# Altium footprint library Gelnar.PcbLib: 295 footprints (part 1 of 19)
Each footprint in its own frame and in the unit in brackets; x right, y up, seen from the top. Pads: shape width x height; smd on the part's side, far side on the other; paste and mask are expansions set on the pad; w line width, h text height; cw(c..) or ccw(c..) is an arc to the next point about the centre after c.
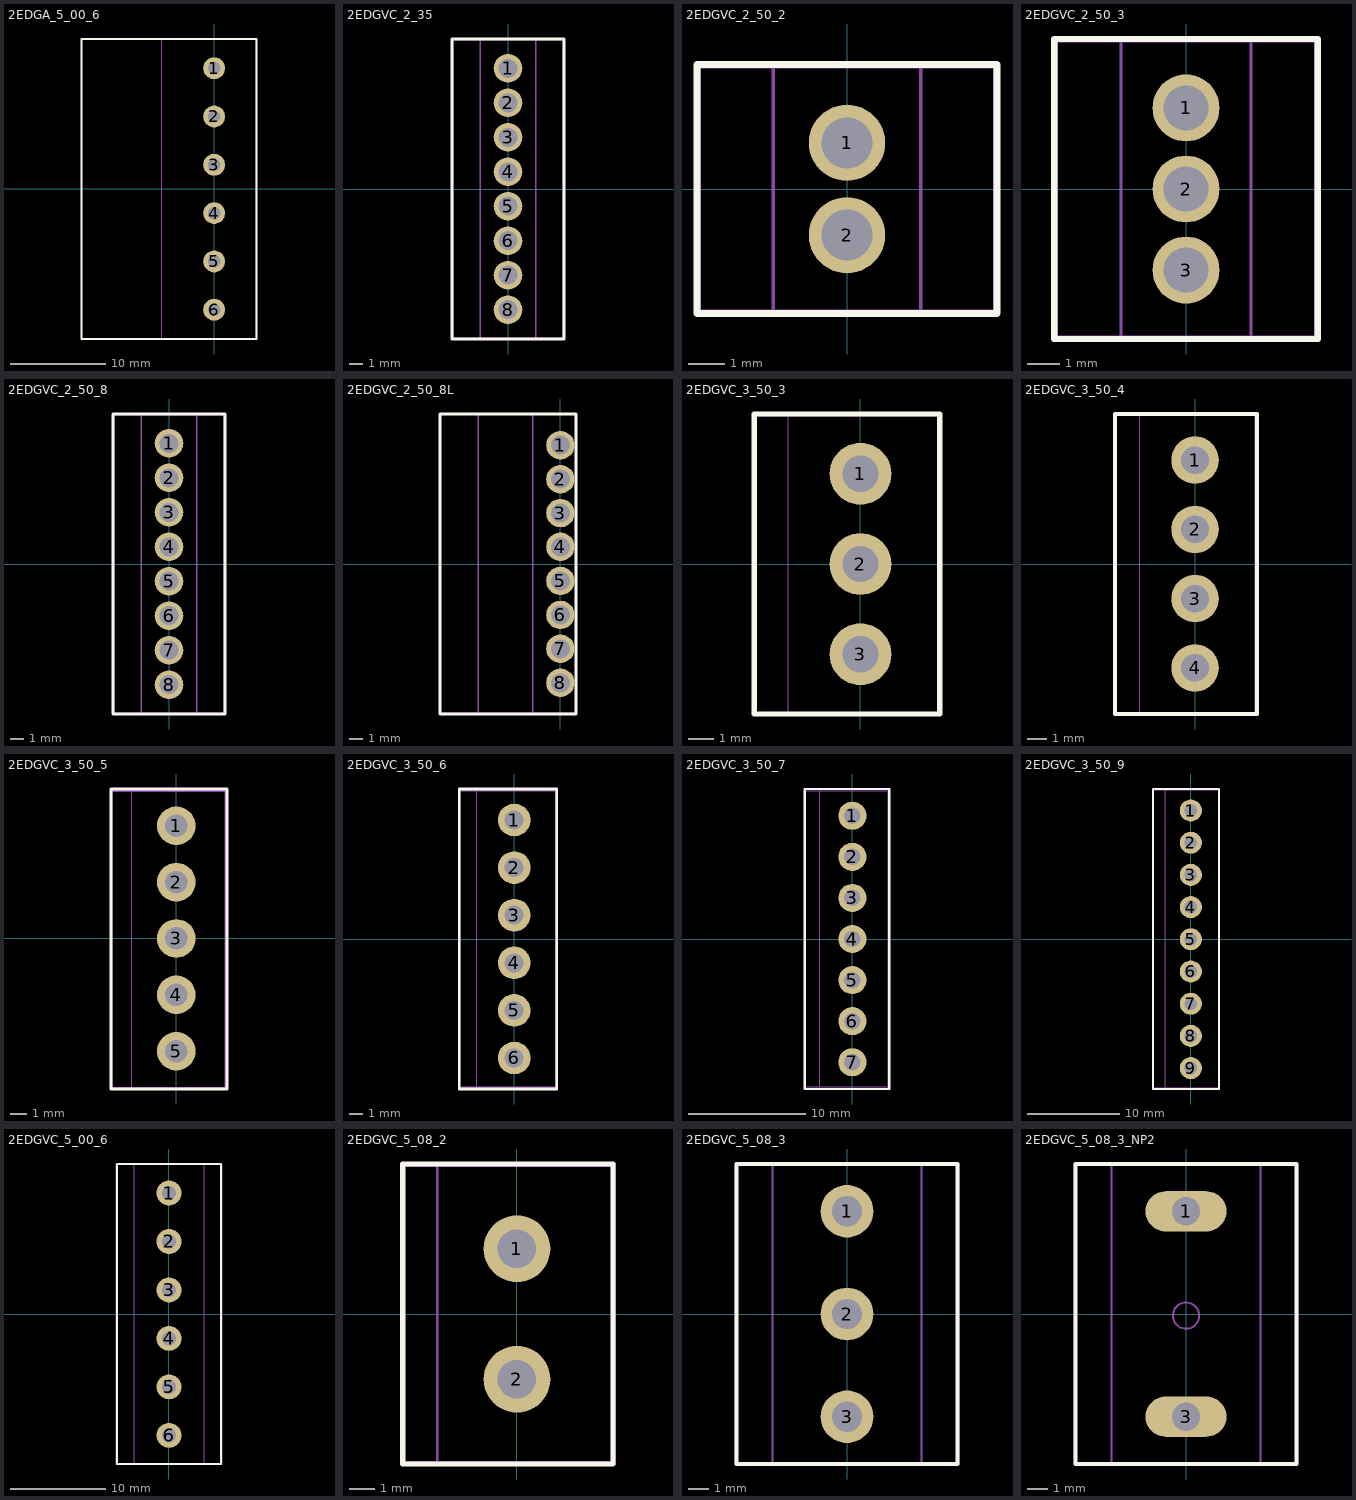
[diagram p0: the footprints below, top view; thin cyan lines are the x and y axes]

## 2EDGA_5_00_6 [mm]
pads (6):
  round 2.3 hole 1.3 mask+0.05: 1(0,12.68) 2(0,7.6) 3(0,2.52) 4(0,-2.56) 5(0,-7.64) 6(0,-12.72)
Top Overlay:
  lines w0.2: -13.95,-15.8 4.45,-15.8 4.45,15.75 -13.95,15.75 -13.95,-15.8
Mechanical 15:
  circle w0.1: c0.05,7.52 r0.65
  circle w0.1: c0.05,-2.48 r0.65
  lines w0.1: -5.5,-15.7 -5.5,15.65 ; -13.9,-15.7 4.4,-15.7 4.4,15.7 -13.9,15.7 -13.9,-15.7
Mechanical 16:
  circle w0.1: c0.05,-2.48 r0.65
  circle w0.1: c0.05,7.52 r0.65
Multi-Layer:
  text "Value" at -4.185,-2.525 h0.75
Mechanical 19:
  circle w0.1: c0.05,2.52 r0.5
Mechanical 20:
  lines w0.1: -13.95,-15.8 4.45,-15.8 4.45,15.75 -13.95,15.75 -13.95,-15.8

## 2EDGVC_2_35 [mm]
pads (8):
  round 2.1 hole 1.4 mask+0.05: 1(0,8.89) 2(0,6.35) 3(0,3.81) 4(0,1.27) 5(0,-1.27) 6(0,-3.81) 7(0,-6.35) 8(0,-8.89)
Top Overlay:
  lines w0.2: -4.127,-11.049 4.127,-11.049 4.127,11.049 -4.127,11.049 -4.127,-11.049
Mechanical 15:
  circle w0.1: c0,6.27 r0.65
  circle w0.1: c0,1.35 r0.65
  lines w0.1: -4.127,-11.049 4.127,-11.049 4.127,11.049 -4.127,11.049 -4.127,-11.049
Mechanical 16:
  circle w0.1: c0,1.35 r0.65
  circle w0.1: c0,6.27 r0.65
Mechanical 19:
  circle w0.1: c0,3.81 r0.5
  lines w0.1: -2.032,-10.986 -2.032,10.986 ; 2.032,-10.986 2.032,10.986
Mechanical 20:
  lines w0.1: -4.064,-11 4.064,-11 4.064,10.986 -4.064,10.986 -4.064,-11

## 2EDGVC_2_50_2 [mm]
pads (2):
  round 2.1 hole 1.4 mask+0.05: 1(0,1.27) 2(0,-1.27)
Top Overlay:
  lines w0.2: -4.127,-3.429 4.127,-3.429 4.127,3.429 -4.127,3.429 -4.127,-3.429
Mechanical 15:
  circle w0.1: c0,-1.35 r0.65
  lines w0.1: -4.127,-3.429 4.127,-3.429 4.127,3.429 -4.127,3.429 -4.127,-3.429
Mechanical 16:
  circle w0.1: c0,-1.35 r0.65
Mechanical 19:
  lines w0.1: -2.032,-3.365 -2.032,3.365 ; 2.032,-3.365 2.032,3.365
Mechanical 20:
  lines w0.1: -4.064,-3.365 4.064,-3.365 4.064,3.365 -4.064,3.365 -4.064,-3.365

## 2EDGVC_2_50_3 [mm]
pads (3):
  round 2.1 hole 1.4 mask+0.05: 1(0,2.54) 2(0,0) 3(0,-2.54)
Top Overlay:
  lines w0.2: -4.127,-4.699 4.127,-4.699 4.127,4.699 -4.127,4.699 -4.127,-4.699
Mechanical 15:
  circle w0.1: c0,-0.08 r0.65
  lines w0.1: -4.127,-4.699 4.127,-4.699 4.127,4.699 -4.127,4.699 -4.127,-4.699
Mechanical 16:
  circle w0.1: c0,-0.08 r0.65
Multi-Layer:
  text "Value" at -1.235,-0.361 h0.75
Mechanical 19:
  circle w0.1: c0,-2.54 r0.5
  lines w0.1: -2.032,-4.635 -2.032,4.635 ; 2.032,-4.635 2.032,4.635
Mechanical 20:
  lines w0.1: -4.064,-4.635 4.064,-4.635 4.064,4.635 -4.064,4.635 -4.064,-4.635

## 2EDGVC_2_50_8 [mm]
pads (8):
  round 2.1 hole 1.4 mask+0.05: 1(0,8.89) 2(0,6.35) 3(0,3.81) 4(0,1.27) 5(0,-1.27) 6(0,-3.81) 7(0,-6.35) 8(0,-8.89)
Top Overlay:
  lines w0.2: -4.127,-11.049 4.127,-11.049 4.127,11.049 -4.127,11.049 -4.127,-11.049
Mechanical 15:
  circle w0.1: c0,6.27 r0.65
  circle w0.1: c0,1.35 r0.65
  lines w0.1: -4.127,-11.049 4.127,-11.049 4.127,11.049 -4.127,11.049 -4.127,-11.049
Mechanical 16:
  circle w0.1: c0,1.35 r0.65
  circle w0.1: c0,6.27 r0.65
Mechanical 19:
  circle w0.1: c0,3.81 r0.5
  lines w0.1: -2.032,-10.986 -2.032,10.986 ; 2.032,-10.986 2.032,10.986
Mechanical 20:
  lines w0.1: -4.064,-11 4.064,-11 4.064,10.986 -4.064,10.986 -4.064,-11

## 2EDGVC_2_50_8L [mm]
pads (8):
  round 2.1 hole 1.4 mask+0.05: 1(0,8.75) 2(0,6.25) 3(0,3.75) 4(0,1.27) 5(0,-1.25) 6(0,-3.75) 7(0,-6.25) 8(0,-8.75)
Top Overlay:
  lines w0.2: -8.877,-11.049 1.156,-11.049 1.156,11.049 -8.877,11.049 -8.877,-11.049
Mechanical 15:
  circle w0.1: c0,6.27 r0.65
  circle w0.1: c0,1.35 r0.65
  lines w0.1: -8.877,-11.049 1.156,-11.049 1.156,11.049 -8.877,11.049 -8.877,-11.049
Mechanical 16:
  circle w0.1: c0,1.35 r0.65
  circle w0.1: c0,6.27 r0.65
Multi-Layer:
  text "Value" at -1.285,-0.425 h0.75
Mechanical 19:
  circle w0.1: c0,3.81 r0.5
  lines w0.1: -6.052,-10.986 -6.052,10.986 ; -2.032,-10.986 -2.032,10.986
Mechanical 20:
  lines w0.1: -8.846,-11 1.143,-11 1.143,11.017 -8.846,11.017 -8.846,-11

## 2EDGVC_3_50_3 [mm]
pads (3):
  round 2.4 hole 1.4 mask+0.05: 1(0,3.5) 2(0,0) 3(0,-3.5)
Top Overlay:
  lines w0.2: -4.117,-5.816 -4.117,5.816 3.071,5.816 3.071,-5.816 -4.117,-5.816
Mechanical 15:
  circle w0.1: c0,-0.08 r0.65
  lines w0.01: -4.052,-5.751 -4.052,5.751 3.006,5.751 3.006,-5.751 -4.052,-5.751
Mechanical 16:
  circle w0.1: c0,-0.08 r0.65
Multi-Layer:
  text "Value" at -1.235,2.75 h0.75
Mechanical 19:
  circle w0.1: c0,-3.5 r0.5
  lines w0.01: -2.81,-5.751 -2.81,5.751
Mechanical 20:
  lines w0.01: -4.117,-5.816 -4.117,5.816 3.071,5.816 3.071,-5.816 -4.117,-5.816

## 2EDGVC_3_50_4 [mm]
pads (4):
  round 2.4 hole 1.4 mask+0.05: 1(0,5.25) 2(0,1.75) 3(0,-1.75) 4(0,-5.25)
Top Overlay:
  lines w0.2: -4.052,-7.581 3.137,-7.581 3.137,7.581 -4.052,7.581 -4.052,-7.581
Mechanical 15:
  circle w0.1: c0,1.75 r0.65
  circle w0.1: c0,-5.25 r0.65
  lines w0.01: -3.986,-7.515 3.006,-7.515 3.006,7.515 -3.986,7.515 -3.986,-7.515
Mechanical 16:
  circle w0.1: c0,-5.25 r0.65
  circle w0.1: c0,1.75 r0.65
Multi-Layer:
  text "Value" at -0.981,1.25 h0.75
Mechanical 19:
  circle w0.1: c0,-1.75 r0.5
  lines w0.01: -2.81,-7.515 -2.81,7.515
Mechanical 20:
  lines w0.01: -4.052,-7.581 3.071,-7.581 3.071,7.581 -4.052,7.581 -4.052,-7.581

## 2EDGVC_3_50_5 [mm]
pads (5):
  round 2.4 hole 1.4 mask+0.05: 1(0,7) 2(0,3.5) 3(0,0) 4(0,-3.5) 5(0,-7)
Top Overlay:
  lines w0.2: -4.052,-9.345 3.137,-9.345 3.137,9.28 -4.052,9.28 -4.052,-9.345
Mechanical 15:
  circle w0.1: c0,3.5 r0.65
  circle w0.1: c0,-3.5 r0.65
  lines w0.01: -3.986,-9.28 3.006,-9.28 3.006,9.149 -3.986,9.149 -3.986,-9.28
Mechanical 16:
  circle w0.1: c0,-3.5 r0.65
  circle w0.1: c0,3.5 r0.65
Mechanical 19:
  circle w0.1: c0,0 r0.5
  lines w0.01: -2.81,-9.28 -2.81,9.149
Mechanical 20:
  lines w0.01: -4.052,-9.345 3.071,-9.345 3.071,9.214 -4.052,9.214 -4.052,-9.345

## 2EDGVC_3_50_6 [mm]
pads (6):
  round 2.4 hole 1.4 mask+0.05: 1(0,8.75) 2(0,5.25) 3(0,1.75) 4(0,-1.75) 5(0,-5.25) 6(0,-8.75)
Top Overlay:
  lines w0.2: -4.052,-11.03 3.137,-11.03 3.137,11.03 -4.052,11.03 -4.052,-11.03
Top Solder:
  lines w0.01: -1.96,0 0,0
Mechanical 15:
  circle w0.1: c0,5.25 r0.65
  circle w0.1: c0,-1.75 r0.65
  lines w0.01: -3.986,-10.899 3.006,-10.899 3.006,10.899 -3.986,10.899 -3.986,-10.899
Mechanical 16:
  circle w0.1: c0,-1.75 r0.65
  circle w0.1: c0,5.25 r0.65
Multi-Layer:
  text "Value" at -1.235,-0.556 h0.75
Mechanical 19:
  circle w0.1: c0,1.75 r0.5
  lines w0.01: -2.81,-10.899 -2.81,10.899
Mechanical 20:
  lines w0.01: -4.052,-10.964 3.071,-10.964 3.071,10.964 -4.052,10.964 -4.052,-10.964

## 2EDGVC_3_50_7 [mm]
pads (7):
  round 2.4 hole 1.4 mask+0.05: 1(0,10.5) 2(0,7) 3(0,3.5) 4(0,0) 5(0,-3.5) 6(0,-7) 7(0,-10.5)
Top Overlay:
  lines w0.2: -4.052,-12.78 3.137,-12.78 3.137,12.78 -4.052,12.78 -4.052,-12.78
Mechanical 15:
  circle w0.1: c0,7 r0.65
  circle w0.1: c0,0 r0.65
  lines w0.01: -3.986,-12.649 3.006,-12.649 3.006,12.649 -3.986,12.649 -3.986,-12.649
Mechanical 16:
  circle w0.1: c0,0 r0.65
  circle w0.1: c0,7 r0.65
Mechanical 19:
  circle w0.1: c0,3.5 r0.5
  lines w0.01: -2.81,-12.649 -2.81,12.649
Mechanical 20:
  lines w0.01: -4.052,-12.763 3.071,-12.763 3.071,12.763 -4.052,12.763 -4.052,-12.763

## 2EDGVC_3_50_9 [mm]
pads (9):
  round 2.4 hole 1.4 mask+0.05: 1(0,14) 2(0,10.5) 3(0,7) 4(0,3.5) 5(0,0) 6(0,-3.5) 7(0,-7) 8(0,-10.5) 9(0,-14)
Top Overlay:
  lines w0.2: -4.117,-16.272 3.071,-16.272 3.071,16.338 -4.117,16.338 -4.117,-16.272
Mechanical 15:
  circle w0.1: c0,10.5 r0.65
  circle w0.1: c0,3.5 r0.65
  lines w0.01: -4.052,-16.207 3.006,-16.207 3.006,16.272 -4.052,16.272 -4.052,-16.207
Mechanical 16:
  circle w0.1: c0,3.5 r0.65
  circle w0.1: c0,10.5 r0.65
Multi-Layer:
  text "Value" at -0.981,11.41 h0.75
Mechanical 19:
  circle w0.1: c0,7 r0.5
  lines w0.01: -2.81,-16.207 -2.81,16.272
Mechanical 20:
  lines w0.01: -4.117,-16.272 3.071,-16.272 3.071,16.338 -4.117,16.338 -4.117,-16.272

## 2EDGVC_5_00_6 [mm]
pads (6):
  round 2.6 hole 1.5 mask+0.05: 1(0.05,12.68) 2(0.05,7.6) 3(0.05,2.52) 4(0.05,-2.56) 5(0.05,-7.64) 6(0.05,-12.72)
Top Overlay:
  lines w0.2: -5.411,-15.713 5.511,-15.713 5.511,15.713 -5.411,15.713 -5.411,-15.713
Mechanical 15:
  circle w0.1: c0.05,7.52 r0.65
  circle w0.1: c0.05,-2.48 r0.65
  lines w0.1: -5.475,-15.72 5.574,-15.72 5.574,15.72 -5.475,15.72 -5.475,-15.72
Mechanical 16:
  circle w0.1: c0.05,-2.48 r0.65
  circle w0.1: c0.05,7.52 r0.65
Multi-Layer:
  text "Value" at -0.931,3.77 h0.75
Mechanical 19:
  circle w0.1: c0.05,2.52 r0.5
  lines w0.1: -3.633,-15.72 -3.633,15.72 ; 3.733,-15.72 3.733,15.72
Mechanical 20:
  lines w0.1: -5.411,-15.713 5.511,-15.713 5.511,15.713 -5.411,15.713 -5.411,-15.713

## 2EDGVC_5_08_2 [mm]
pads (2):
  round 2.6 hole 1.5 mask+0.05: 1(0,2.54) 2(0,-2.54)
Top Overlay:
  lines w0.2: -4.45,-5.842 3.746,-5.842 3.746,5.842 -4.45,5.842 -4.45,-5.842
Mechanical 15:
  circle w0.1: c0,-2.62 r0.65
  lines w0.1: -3.111,-5.779 -3.111,5.779 ; -4.445,-5.78 3.75,-5.78 3.75,5.78 -4.445,5.78 -4.445,-5.78
Mechanical 16:
  circle w0.1: c0,-2.62 r0.65
Mechanical 20:
  lines w0.1: -4.508,-5.842 3.81,-5.842 3.81,5.842 -4.508,5.842 -4.508,-5.842

## 2EDGVC_5_08_3 [mm]
pads (3):
  round 2.6 hole 1.5 mask+0.05: 1(0,5.08) 2(0,0) 3(0,-5.08)
Top Overlay:
  lines w0.2: -5.461,-7.413 5.461,-7.413 5.461,7.413 -5.461,7.413 -5.461,-7.413
Mechanical 15:
  circle w0.1: c0,-0.08 r0.65
  lines w0.1: -5.524,-7.42 5.524,-7.42 5.524,7.42 -5.524,7.42 -5.524,-7.42
Mechanical 16:
  circle w0.1: c0,-0.08 r0.65
Multi-Layer:
  text "Value" at -1.235,2.75 h0.75
Mechanical 19:
  circle w0.1: c0,-5.08 r0.5
  lines w0.1: -3.683,-7.42 -3.683,7.42 ; 3.683,-7.42 3.683,7.42
Mechanical 20:
  lines w0.1: -5.461,-7.413 5.461,-7.413 5.461,7.413 -5.461,7.413 -5.461,-7.413

## 2EDGVC_5_08_3_NP2 [mm]
pads (2):
  oval 4x2 hole 1.4 mask+0.05: 1(0,5.08) 3(0,-5.08)
Top Overlay:
  lines w0.2: -5.461,-7.413 5.461,-7.413 5.461,7.413 -5.461,7.413 -5.461,-7.413
Mechanical 15:
  circle w0.1: c0,-0.08 r0.65
  lines w0.1: -5.524,-7.42 5.524,-7.42 5.524,7.42 -5.524,7.42 -5.524,-7.42
Mechanical 16:
  circle w0.1: c0,-0.08 r0.65
Multi-Layer:
  text "Value" at -1.235,0.845 h0.75
Mechanical 19:
  circle w0.1: c0,-5.08 r0.5
  lines w0.1: -3.683,-7.42 -3.683,7.42 ; 3.683,-7.42 3.683,7.42
Mechanical 20:
  lines w0.1: -5.461,-7.413 5.461,-7.413 5.461,7.413 -5.461,7.413 -5.461,-7.413